# Altium footprint library switches.PcbLib: 3 footprints
Each footprint in its own frame and in the unit in brackets; x right, y up, seen from the top. Pads: shape width x height; smd on the part's side, far side on the other; paste and mask are expansions set on the pad; w line width, h text height; cw(c..) or ccw(c..) is an arc to the next point about the centre after c.
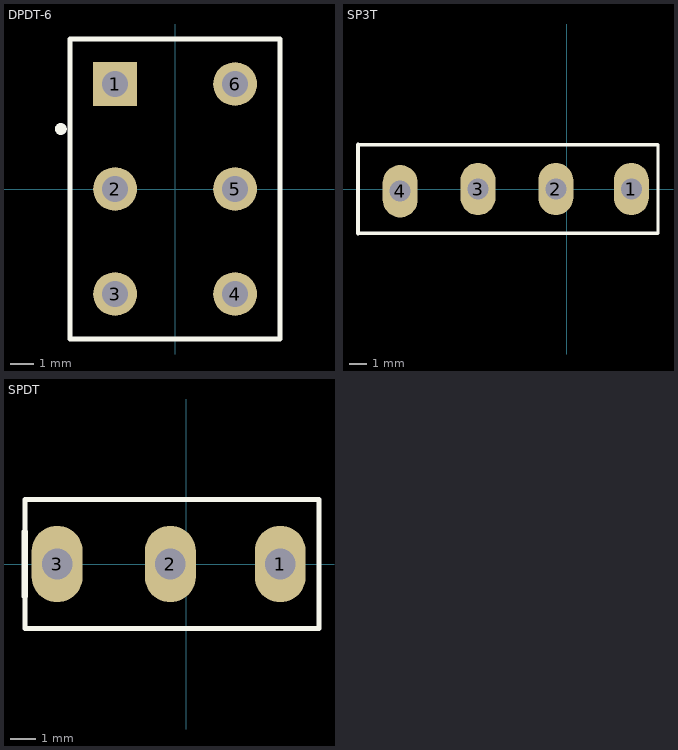
[diagram p0: the footprints below, top view; thin cyan lines are the x and y axes]

## DPDT-6 [mm] "Switch; 6 Leads"
pads (6):
  rect 1.85x1.85 hole 1.1: 1(-2.54,4.445)
  round 1.85 hole 1.1: 2(-2.54,0) 3(-2.54,-4.445) 4(2.54,-4.445) 5(2.54,0) 6(2.54,4.445)
Top Overlay:
  circle w0.25: c-4.836,2.541 r0.125
  lines w0.2: -4.445,-6.35 -4.445,6.35 4.445,6.35 4.445,-6.35 -4.445,-6.35

## SP3T [mm] "Switch SP3T; 4 Leads"
pads (4):
  oval 2x3 hole 1.2: 1(3.683,0) 2(-0.635,0) 3(-5.08,0) 4(-9.525,-0.127)
Top Overlay:
  lines w0.2: -11.938,-2.54 5.207,-2.54 5.207,2.54 -6.35,2.54 -11.938,2.54
  lines w0.254: -11.938,-2.54 -11.938,2.54

## SPDT [mm] "Switch SPDT; 3 Leads"
pads (3):
  oval 2x3 hole 1.2: 1(3.683,0) 2(-0.635,0) 3(-5.08,0)
Top Overlay:
  lines w0.2: -6.35,-1.27 -6.35,-2.54 5.207,-2.54 5.207,2.54 -6.35,2.54 -6.35,1.27
  lines w0.254: -6.35,-1.27 -6.35,1.27